# EAGLE library part TMP20 (library sc_usercreated)
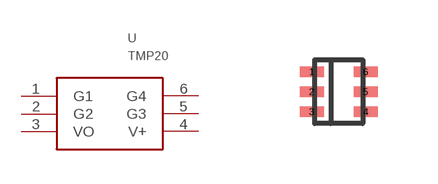
[diagram p24: symbol with the pads of SOT563-6; footprint SOT563-6]

Designator prefix U

## TMP20  [SOT563-6]
1  G1
2  G2
3  VO
4  V+
5  G3
6  G4

## Footprint SOT563-6 (pad centres in mm)
smd 0.6 x 0.254: 1 -0.675,0.5; 2 -0.675,0; 3 -0.675,-0.5; 4 0.675,-0.5; 5 0.675,0; 6 0.675,0.5